# EAGLE library part FPF132X (library switches)
Digital Power Switch to select between two supply voltages 1.5-5.5V, 1.5A X=0/1 chooses whether Vout floats or is grounded when EN is low
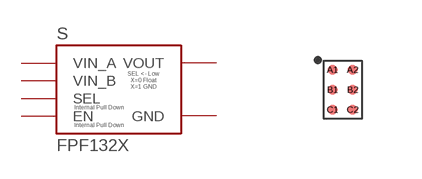
[diagram p13: symbol with the pads of 6-UFBGA; footprint 6-UFBGA]

Designator prefix S

## FPF132X-X=0 (DIGIKEY: FPF1320UCXCT-ND; MANUFACTURER: Fairchild/ON Semiconductor; MPN: FPF1320UCX)  [6-UFBGA]
A1  EN
A2  VIN_A
B1  SEL
B2  VOUT
C1  GND
C2  VIN_B

## FPF132X-X=1 (DIGIKEY: FPF1321UCXTR-ND; MANUFACTURER: Fairchild/ON Semiconductor; MPN: FPF1321UCX)  [6-UFBGA]
Pads as for 6-UFBGA

## Footprint 6-UFBGA (pad centres in mm)
6-Ball, 1.0 x 1.5 mm , Wafter-Level Chip-Scale Package (WLCSP) Drawn from https://www.fairchildsemi.com/datasheets/FP/FPF1321.pdf Digi-Key FPF1320UCXCT-ND
smd 0.25 x 0.25: A1 -0.25,0.5; A2 0.25,0.5; B1 -0.25,0; B2 0.25,0; C1 -0.25,-0.5; C2 0.25,-0.5